# Altium schematic symbol library SCH - POWER - MODULE - AP63205.SCHLIB: 1 symbol
Pins are listed as number, name and electrical type; pins without a type are passive.

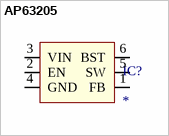
[diagram p0: symbol AP63205]

## AP63205
designator IC?
pins: 1 FB, 2 EN, 3 VIN, 4 GND, 5 SW, 6 BST